# Altium footprint library SO-powerPAD-8.PcbLib: 5 footprints
Each footprint in its own frame and in the unit in brackets; x right, y up, seen from the top. Pads: shape width x height; smd on the part's side, far side on the other; paste and mask are expansions set on the pad; w line width, h text height; cw(c..) or ccw(c..) is an arc to the next point about the centre after c.
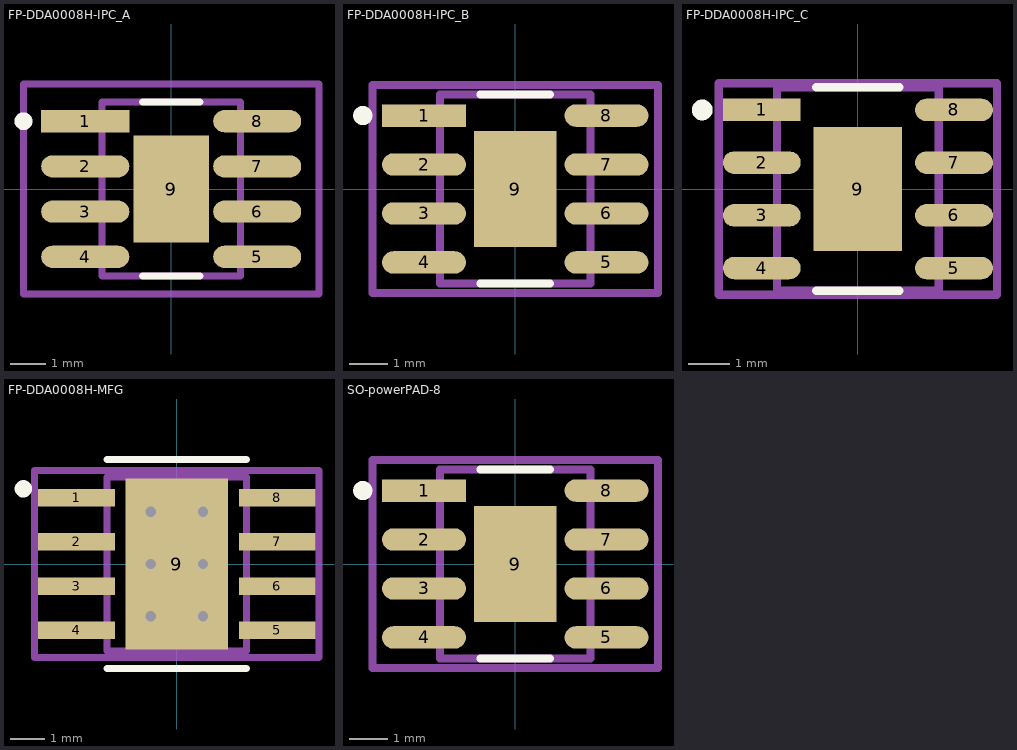
[diagram p0: the footprints below, top view; thin cyan lines are the x and y axes]

## FP-DDA0008H-IPC_A [mm]
pads (9):
  rect 2.474x0.622 smd paste+0 mask+0: 1(-2.416,1.905)
  rrect100% 2.474x0.622 smd paste+0 mask+0: 2(-2.416,0.635) 3(-2.416,-0.635) 4(-2.416,-1.905) 5(2.416,-1.905) 6(2.416,-0.635) 7(2.416,0.635) 8(2.416,1.905)
  rect 2.13x3 smd paste-1000 mask+0: 9(0,0)
Top Overlay:
  circle w0.25: c-4.153,1.905 r0.125
  lines w0.2: -0.804,-2.45 0.804,-2.45 ; -0.804,2.45 0.804,2.45
Top Paste:
  rectangle: -0.611,-1.046 0.611,1.046
Top Assembly:
  lines w0.2: -4.153,-2.95 -4.153,2.95 4.153,2.95 4.153,-2.95 -4.153,-2.95
  text ".Designator" at 0,0 h1
Top 3D Body:
  lines w0.2: -1.95,-2.45 -1.95,2.45 1.95,2.45 1.95,-2.45 -1.95,-2.45
Top Courtyard:
  lines w0.2: -4.153,-2.95 -4.153,2.95 4.153,2.95 4.153,-2.95 -4.153,-2.95
Top Component Center:
  lines w0.1: -0.5,0 0.5,0 ; 0,-0.5 0,0.5
3D body "IC_Texas_Instruments_TPS54332DDA_eec.STEP": height 0.25, standoff 0, extent -4.153,-2.95 4.153,2.95

## FP-DDA0008H-IPC_B [mm]
pads (9):
  rect 2.174x0.582 smd paste+0 mask+0: 1(-2.366,1.905)
  rrect100% 2.174x0.582 smd paste+0 mask+0: 2(-2.366,0.635) 3(-2.366,-0.635) 4(-2.366,-1.905) 5(2.366,-1.905) 6(2.366,-0.635) 7(2.366,0.635) 8(2.366,1.905)
  rect 2.13x3 smd paste-1000 mask+0: 9(0,0)
Top Overlay:
  circle w0.25: c-3.953,1.905 r0.125
  lines w0.2: -0.904,-2.45 0.904,-2.45 ; -0.904,2.45 0.904,2.45
Top Paste:
  rectangle: -0.611,-1.046 0.611,1.046
Top Assembly:
  lines w0.2: -3.703,-2.7 -3.703,2.7 3.703,2.7 3.703,-2.7 -3.703,-2.7
  text ".Designator" at 0,0 h1
Top 3D Body:
  lines w0.2: -1.95,-2.45 -1.95,2.45 1.95,2.45 1.95,-2.45 -1.95,-2.45
Top Courtyard:
  lines w0.2: -3.703,-2.7 -3.703,2.7 3.703,2.7 3.703,-2.7 -3.703,-2.7
Top Component Center:
  lines w0.1: -0.5,0 0.5,0 ; 0,-0.5 0,0.5
3D body "IC_Texas_Instruments_TPS54332DDA_eec.STEP": height 0.25, standoff 0, extent -3.703,-2.7 3.703,2.7

## FP-DDA0008H-IPC_C [mm]
pads (9):
  rect 1.874x0.542 smd paste+0 mask+0: 1(-2.316,1.905)
  rrect100% 1.874x0.542 smd paste+0 mask+0: 2(-2.316,0.635) 3(-2.316,-0.635) 4(-2.316,-1.905) 5(2.316,-1.905) 6(2.316,-0.635) 7(2.316,0.635) 8(2.316,1.905)
  rect 2.13x3 smd paste-1000 mask+0: 9(0,0)
Top Overlay:
  circle w0.25: c-3.753,1.905 r0.125
  lines w0.2: -1.004,-2.45 1.004,-2.45 ; -1.004,2.45 1.004,2.45
Top Paste:
  rectangle: -0.611,-1.046 0.611,1.046
Top Assembly:
  lines w0.2: -3.353,-2.55 -3.353,2.55 3.353,2.55 3.353,-2.55 -3.353,-2.55
  text ".Designator" at 0,0 h1
Top 3D Body:
  lines w0.2: -1.95,-2.45 -1.95,2.45 1.95,2.45 1.95,-2.45 -1.95,-2.45
Top Courtyard:
  lines w0.2: -3.353,-2.55 -3.353,2.55 3.353,2.55 3.353,-2.55 -3.353,-2.55
Top Component Center:
  lines w0.1: -0.5,0 0.5,0 ; 0,-0.5 0,0.5
3D body "IC_Texas_Instruments_TPS54332DDA_eec.STEP": height 0.25, standoff 0, extent -3.353,-2.55 3.353,2.55

## FP-DDA0008H-MFG [mm]
pads (9):
  rect 2.2x0.5 smd paste-1000 mask+0: 1(-2.875,1.905) 2(-2.875,0.635) 3(-2.875,-0.635) 4(-2.875,-1.905) 5(2.875,-1.905) 6(2.875,-0.635) 7(2.875,0.635) 8(2.875,1.905)
  rect 2.94x4.89 smd paste-1000 mask-1000: 9(0,0)
via -0.75,1.5 diameter 0.6 hole 0.3
via -0.75,0 diameter 0.6 hole 0.3
via -0.75,-1.5 diameter 0.6 hole 0.3
via 0.75,1.5 diameter 0.6 hole 0.3
via 0.75,0 diameter 0.6 hole 0.3
via 0.75,-1.5 diameter 0.6 hole 0.3
Top Overlay:
  circle w0.25: c-4.4,2.155 r0.125
  lines w0.2: -2,-3 2,-3 ; -2,3 2,3
Top Paste:
  rectangle: -3.95,1.68 -1.8,2.13
  rectangle: -3.95,0.41 -1.8,0.86
  rectangle: -3.95,-0.86 -1.8,-0.41
  rectangle: -3.95,-2.13 -1.8,-1.68
  rectangle: 1.8,-2.13 3.95,-1.68
  rectangle: 1.8,-0.86 3.95,-0.41
  rectangle: 1.8,0.41 3.95,0.86
  rectangle: 1.8,1.68 3.95,2.13
  rectangle: -1.065,-1.5 1.065,1.5
Top Solder:
  rectangle: -1.065,-1.5 1.065,1.5
Top Assembly:
  lines w0.2: -4.075,-2.675 4.075,-2.675 4.075,2.675 -4.075,2.675 -4.075,-2.675
  text ".Designator" at 0,0.189 h1
Top 3D Body:
  lines w0.2: -2,-2.5 2,-2.5 2,2.5 -2,2.5 -2,-2.5
Top Courtyard:
  lines w0.2: -4.075,-2.675 4.075,-2.675 4.075,2.675 -4.075,2.675 -4.075,-2.675
Top Component Center:
  lines w0.1: -0.5,0 0.5,0 ; 0,-0.5 0,0.5
3D body "IC_Texas_Instruments_TPS54332DDA_eec.STEP": height 0.25, standoff 0, extent -4.075,-2.675 4.075,2.675

## SO-powerPAD-8 [mm]
pads (9):
  rect 2.174x0.582 smd paste+0 mask+0: 1(-2.366,1.905)
  rrect100% 2.174x0.582 smd paste+0 mask+0: 2(-2.366,0.635) 3(-2.366,-0.635) 4(-2.366,-1.905) 5(2.366,-1.905) 6(2.366,-0.635) 7(2.366,0.635) 8(2.366,1.905)
  rect 2.13x3 smd paste-1000 mask+0: 9(0,0)
Top Overlay:
  circle w0.25: c-3.953,1.905 r0.125
  lines w0.2: -0.904,-2.45 0.904,-2.45 ; -0.904,2.45 0.904,2.45
Top Paste:
  rectangle: -0.611,-1.046 0.611,1.046
Top Assembly:
  lines w0.2: -3.703,-2.7 -3.703,2.7 3.703,2.7 3.703,-2.7 -3.703,-2.7
  text ".Designator" at 0,0 h1
Top 3D Body:
  lines w0.2: -1.95,-2.45 -1.95,2.45 1.95,2.45 1.95,-2.45 -1.95,-2.45
Top Courtyard:
  lines w0.2: -3.703,-2.7 -3.703,2.7 3.703,2.7 3.703,-2.7 -3.703,-2.7
Top Component Center:
  lines w0.1: -0.5,0 0.5,0 ; 0,-0.5 0,0.5
3D body "IC_Texas_Instruments_TPS54332DDA_eec.STEP": height 0.25, standoff 0, extent -3.703,-2.7 3.703,2.7